# Altium schematic symbol library CONN(uFL, UMRF_PCB_SMT_3_PAD).SchLib: 1 symbol
Pins are listed as number, name and electrical type; pins without a type are passive.

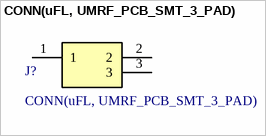
[diagram p0: symbol CONN(uFL, UMRF_PCB_SMT_3_PAD)]

## CONN(uFL, UMRF_PCB_SMT_3_PAD)
designator J?
Manufacturer: Wurth Electronics; Manufacturer_PN: 636101111001; Datasheet: https://www.we-online.com/components/products/datasheet/636101111001.pdf; Digikey_Link: https://www.digikey.it/en/products/detail/w%C3%BCrth-elektronik/636101111001/14113671?srsltid=AfmBOook8jlTLYRXiEV8OJdA8jHt4DKqc55wP7rMekC0gwRDo1HRVmp4
footprint 636101111001
pins: 1, 2, 3